# EAGLE library part LT3474EFEPBF (library Moodlight)
Step-Down 1A LED Driver
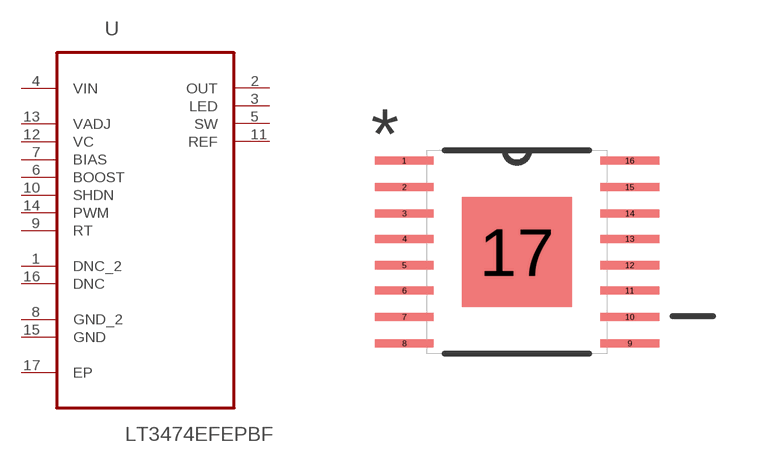
[diagram p8: symbol with the pads of SOP65P640X110-17N; footprint SOP65P640X110-17N]

Designator prefix U

## LT3474EFEPBF (MPN: LT3474EFE#PBF; OC_FARNELL: 1226271; OC_NEWARK: 57M8286; PACKAGE: TSSOP-16; SUPPLIER: LINEAR TECHNOLOGY)  [SOP65P640X110-17N]
1  DNC_2  nc
2  OUT  out
3  LED  out
4  VIN  pwr
5  SW  out
6  BOOST  in
7  BIAS  in
8  GND_2  pas
9  RT  in
10  SHDN  in
11  REF  out
12  VC  in
13  VADJ  in
14  PWM  in
15  GND  pas
16  DNC  nc
17  EP  pas

## Footprint SOP65P640X110-17N (pad centres in mm)
smd 1.473 x 0.203: 1 -2.819,2.286; 2 -2.819,1.626; 3 -2.819,0.965; 4 -2.819,0.33; 5 -2.819,-0.33; 6 -2.819,-0.965; 7 -2.819,-1.626; 8 -2.819,-2.286; 9 2.819,-2.286; 10 2.819,-1.626; 11 2.819,-0.965; 12 2.819,-0.33; 13 2.819,0.33; 14 2.819,0.965; 15 2.819,1.626; 16 2.819,2.286
smd 2.743 x 2.743: 17 0,0